# Altium footprint library pcbLib.PcbLib: 2 footprints
Each footprint in its own frame and in the unit in brackets; x right, y up, seen from the top. Pads: shape width x height; smd on the part's side, far side on the other; paste and mask are expansions set on the pad; w line width, h text height; cw(c..) or ccw(c..) is an arc to the next point about the centre after c.
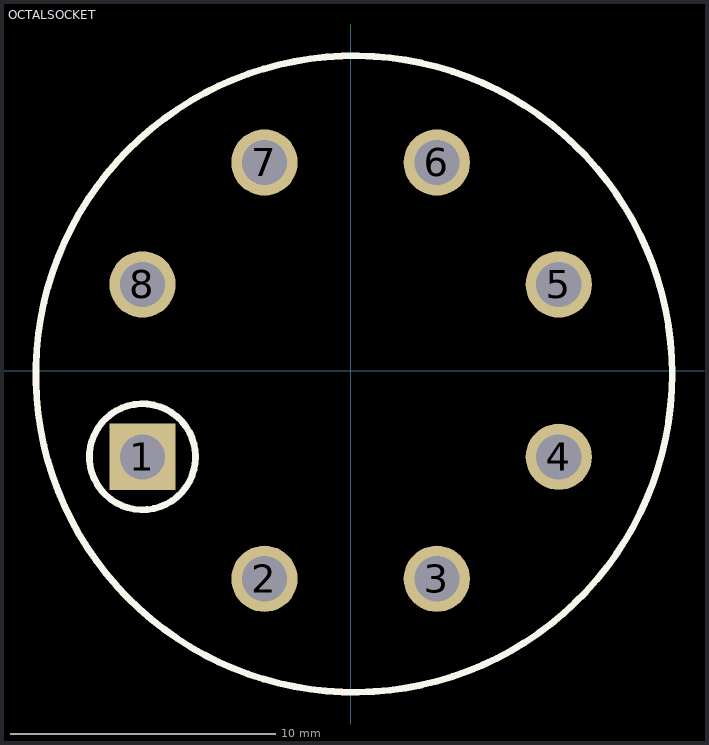
[diagram p0: the footprints below, top view; thin cyan lines are the x and y axes]

## OCTALSOCKET [mm]
pads (8):
  rect 2.5x2.5 hole 1.7: 1(-7.85,-3.25)
  round 2.5 hole 1.7: 2(-3.25,-7.85) 3(3.25,-7.85) 4(7.85,-3.25) 5(7.85,3.25) 6(3.25,7.85) 7(-3.25,7.85) 8(-7.85,3.25)
Top Overlay:
  circle w0.254: c-7.85,-3.25 r2
  circle w0.254: c0.127,-0.127 r12
3D body: height 18.01, standoff -4.4, extent -25,-17 25,17

## PCBComponent_1 [mm]